# Altium footprint library PcbLib1.PcbLib: 1 footprints
Each footprint in its own frame and in the unit in brackets; x right, y up, seen from the top. Pads: shape width x height; smd on the part's side, far side on the other; paste and mask are expansions set on the pad; w line width, h text height; cw(c..) or ccw(c..) is an arc to the next point about the centre after c.
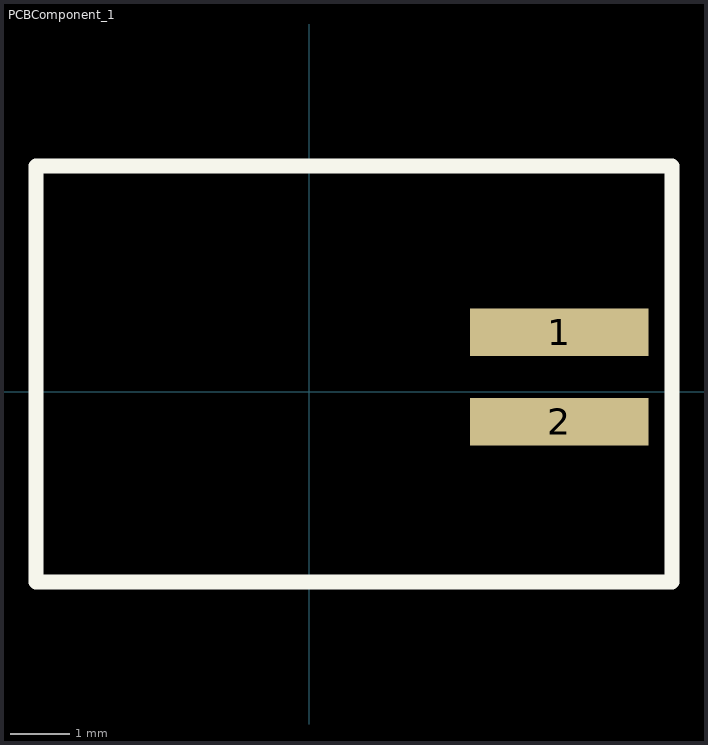
[diagram p0: the footprint, top view; thin cyan lines are the x and y axes]

## PCBComponent_1 [mm]
pads (2):
  rect 3x0.8 smd: 1(4.2,1) 2(4.2,-0.5)
Top Overlay:
  lines w0.254: -4.6,-3.2 6.1,-3.2 6.1,3.7 6.1,3.8 -4.6,3.8 -4.6,-3.2
3D body "User Library-ms621fe.STEP": height 2.75, standoff 0.05, extent -4.428,-3.116 4.872,3.684